# EAGLE library part MY_LCD (library LCD_CORRECT v13)
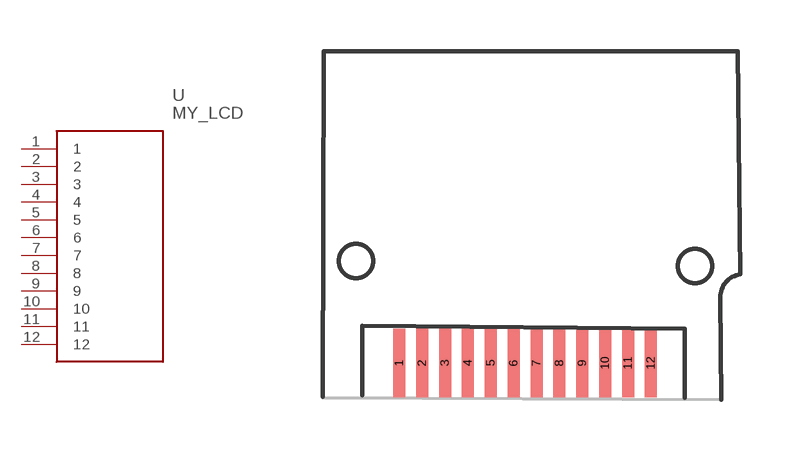
[diagram p0: symbol with the pads of PCA6LA12HL3TR; footprint PCA6LA12HL3TR]

Designator prefix -

## MY_LCD  [PCA6LA12HL3TR]
1  1
2  2
3  3
4  4
5  5
6  6
7  7
8  8
9  9
10  10
11  11
12  12

## Footprint PCA6LA12HL3TR (pad centres in mm)
PCA-6-LA-12-HL-3-T/R-2
smd 0.35 x 2: 1 -3.741,-4.26; 2 -3.072,-4.26; 3 -2.403,-4.26; 4 -1.735,-4.26; 5 -1.066,-4.26; 6 -0.398,-4.26; 7 0.271,-4.26; 8 0.939,-4.26; 9 1.608,-4.26; 10 2.276,-4.26; 11 2.945,-4.26; 12 3.614,-4.26